# Altium footprint library Resistors.PcbLib: 12 footprints
Each footprint in its own frame and in the unit in brackets; x right, y up, seen from the top. Pads: shape width x height; smd on the part's side, far side on the other; paste and mask are expansions set on the pad; w line width, h text height; cw(c..) or ccw(c..) is an arc to the next point about the centre after c.
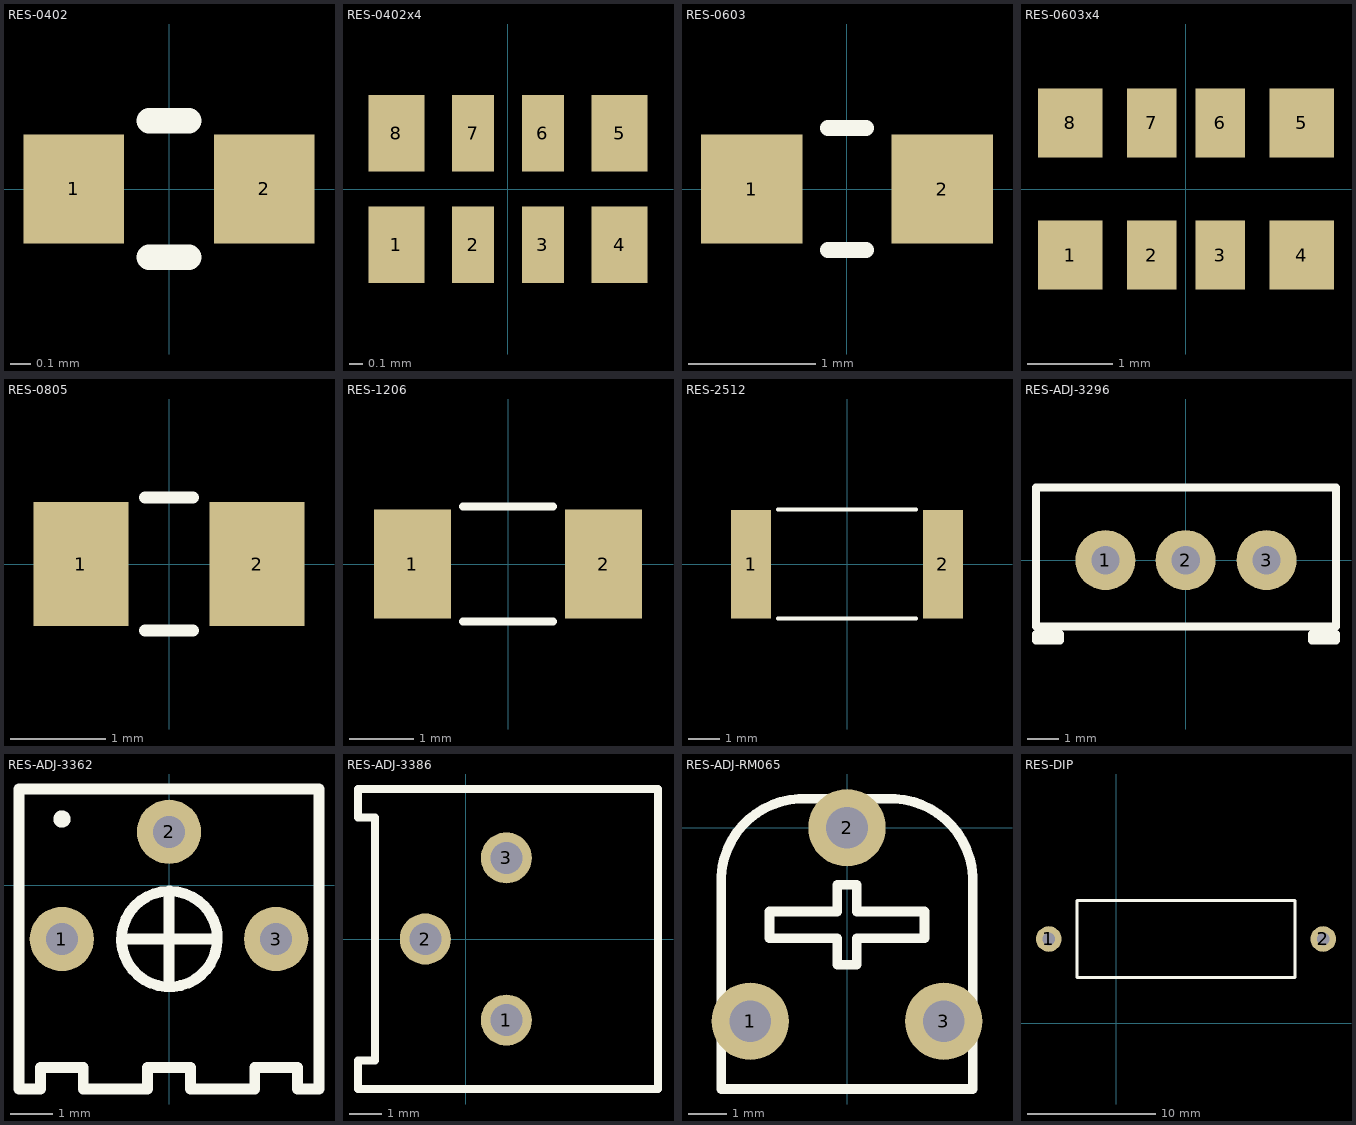
[diagram p0: the footprints below, top view; thin cyan lines are the x and y axes]

## RES-0402 [mm] "Resistors"
height 15.49
pads (2):
  rect 0.5x0.544 smd mask+0.051: 1(-0.475,0) 2(0.475,0)
Top Overlay:
  lines w0.125: -0.1,-0.34 0.1,-0.34 ; -0.1,0.34 0.1,0.34
3D body "User Library-RES_1005-0402.STEP": height 0.41, standoff 0, extent -0.575,-0.275 0.575,0.275

## RES-0402x4 [mm] "Array Resistors"
height 2.8
pads (8):
  rect 0.4x0.55 smd mask+0.051: 1(-0.8,-0.4) 4(0.8,-0.4) 5(0.8,0.4) 8(-0.8,0.4)
  rect 0.3x0.55 smd mask+0.051: 2(-0.25,-0.4) 3(0.25,-0.4) 6(0.25,0.4) 7(-0.25,0.4)
3D body "User Library-YC124-1.step": height 0.45, standoff 0, extent -1,-0.5 1,0.5

## RES-0603 [mm] "Resistors"
height 2.8
pads (2):
  rect 0.8x0.86 smd: 1(-0.75,0) 2(0.75,0)
Top Overlay:
  lines w0.125: -0.15,-0.48 0.15,-0.48 ; -0.15,0.48 0.15,0.48
3D body "User Library-RES_1609-0603.STEP": height 0.56, standoff 0, extent -0.85,-0.4 0.85,0.4

## RES-0603x4 [mm] "Array Resistors"
height 2.8
pads (8):
  rect 0.75x0.8 smd mask+0.051: 1(-1.35,-0.77) 4(1.35,-0.77) 5(1.35,0.77) 8(-1.35,0.77)
  rect 0.58x0.8 smd mask+0.051: 2(-0.4,-0.77) 3(0.4,-0.77) 6(0.4,0.77) 7(-0.4,0.77)
3D body "SW3dPS-RN164P.STEP": height 0.55, standoff 0, extent -1.6,-0.8 1.6,0.8

## RES-0805 [mm] "Resistors"
height 2.8
pads (2):
  rect 1x1.3 smd: 1(-0.925,0) 2(0.925,0)
Top Overlay:
  lines w0.125: -0.25,-0.7 0.25,-0.7 ; -0.25,0.7 0.25,0.7
3D body "User Library-R_0805.STEP": height 0.49, standoff -0.01, extent -1,-0.625 1,0.625

## RES-1206 [mm] "Resistors"
height 2.8
pads (2):
  rect 1.2x1.7 smd: 1(-1.49,0) 2(1.49,0)
Top Overlay:
  lines w0.125: -0.7,-0.9 0.7,-0.9 ; -0.7,0.9 0.7,0.9
3D body "User Library-RES_3216-1206.STEP": height 0.85, standoff 0, extent -1.7,-0.864 1.65,0.866

## RES-2512 [mil] "Resistors"
pads (2):
  rect 50.5x136.1 smd mask+4.02: 1(-120.7,0) 2(120.7,0)
Top Overlay:
  lines w4.92: -86.61,-68.11 86.61,-68.11 ; -86.61,68.9 86.61,68.9
Top Paste:
  region: -95.5,-64.1 -95.5,-27.1 -99.4,-23.1 -108.7,-23.1 -112.6,-19.2 -112.6,19.2 -108.7,23.1 -99.4,23.1 -95.5,27.1 -95.5,64.1 -99.4,68 -142,68 -146,64.1 -146,-64.1 -142,-68 -99.4,-68
  region: 95.5,-64.1 95.5,-27.1 99.4,-23.1 108.7,-23.1 112.6,-19.2 112.6,19.2 108.7,23.1 99.4,23.1 95.5,27.1 95.5,64.1 99.4,68 142,68 146,64.1 146,-64.1 142,-68 99.4,-68
3D body "User Library-R SMD 2512.STEP": height 24.51, standoff 0.89, extent -123.66,-61.61 124.37,62.4

## RES-ADJ-3296 [mm] "Adjustable Resistors"
pads (3):
  round 1.9 hole 0.9: 1(-2.55,0) 2(-0.01,0) 3(2.55,0)
Top Overlay:
  lines w0.254: -4.75,-2.54 -3.988,-2.54 -3.988,-2.34 -4.75,-2.34 -4.75,-2.54 ; -4.75,-2.1 4.75,-2.1 4.75,2.3 -4.75,2.3 -4.75,-2.1 ; 3.988,-2.54 4.75,-2.54 4.75,-2.34 3.988,-2.34 3.988,-2.54
3D body "User Library-bourns 3296 pot.step": height 11.55, standoff -6.4, extent -4.765,-2.531 4.765,2.3

## RES-ADJ-3362 [mil] "Adjustable Resistors"
pads (3):
  round 60 hole 30: 1(-100,-50) 2(0,50) 3(100,-50)
Top Overlay:
  lines w10: -100,65 ccw(c-99.95,62) -99.9,65 ; -40,-50 40,-50 ; 0,-90 0,-10 ; 0,-5.3 ccw(c0.4,-50.02) 0.8,-5.3 ; 140,-30 140,90 -140,90 -140,-30 -140,-170 -140,-190 -120,-190 -120,-170 -80,-170 -80,-190 -20,-190 -20,-170 20,-170 20,-190 80,-190 80,-170 120,-170 120,-190 140,-190 140,-170 140,-10
3D body "User Library-3362P-1-102LF.step": height 173.03, standoff -118.11, extent -129.92,-179.92 129.92,79.92

## RES-ADJ-3386 [mm] "Adjustable Resistors"
pads (3):
  round 1.6 hole 1: 1(1.27,-2.54) 2(-1.27,0) 3(1.27,2.54)
Top Overlay:
  lines w0.254: -3.378,-4.699 -3.378,-3.81 -2.845,-3.81 -2.845,3.81 -3.378,3.81 -3.378,4.699 6.02,4.699 6.02,-4.699 -3.378,-4.699
Mechanical 15:
  text "1" at 2.032,-2.54 h0.51
3D body "User Library-3386P-L.STEP": height 5.02, standoff -5.49, extent -3.51,-4.8 6.09,4.8

## RES-ADJ-RM065 [mil] "Adjustable Resistors"
height 68.9
pads (3):
  round 80 hole 43.31: 1(-100,-200) 2(0,0) 3(100,-200)
Top Overlay:
  lines w10: -130,-270 -130,-50 cw(c-45,-55) -40,30 40,30 cw(c45,-55) 130,-50 130,-270 -130,-270 ; -80,-114.17 -10,-114.17 -10,-141.73 10,-141.73 10,-114.17 80,-114.17 80,-86.61 10,-86.61 10,-59.06 -10,-59.06 -10,-70 -10,-86.61 -80,-86.61 -80,-114.17
3D body "RM065.STEP": height 299.21, standoff -137.8, extent -127.95,-268.83 127.96,29.59

## RES-DIP [mm] "3W_L17.0_6.0"
pads (2):
  round 2 hole 1: 1(-5.248,6.556) 2(16.152,6.556)
Top Overlay:
  lines w0.254: -3.048,3.556 13.952,3.556 13.952,9.556 -3.048,9.556 -3.048,3.556
3D body "插件,D6.5xL17.5mm.step": height 6.75, standoff -4.75, extent -5.698,3.354 16.602,9.854